# EAGLE library part HEADER-2X10 (library microbuilder)
PIN HEADER
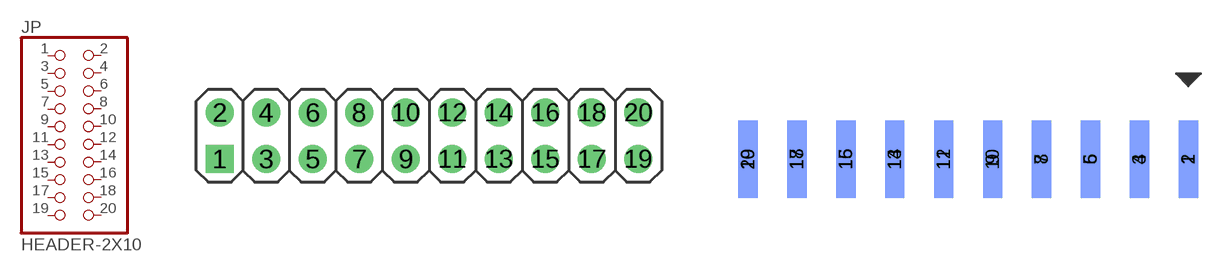
[diagram p11: symbol with the pads of 2X10; footprints 2X10, MOLEX20_RIGHTANGLE]

Designator prefix JP

## HEADER-2X10  [2X10]
1  1  pas
2  2  pas
3  3  pas
4  4  pas
5  5  pas
6  6  pas
7  7  pas
8  8  pas
9  9  pas
10  10  pas
11  11  pas
12  12  pas
13  13  pas
14  14  pas
15  15  pas
16  16  pas
17  17  pas
18  18  pas
19  19  pas
20  20  pas

## HEADER-2X10MOLEX20_SIDE  [MOLEX20_RIGHTANGLE]
Pads as for 2X10

## Footprint 2X10 (pad centres in mm)
PIN HEADER
drill 1 square: 1 -11.43,-1.27
drill 1 round: 2 -11.43,1.27; 3 -8.89,-1.27; 4 -8.89,1.27; 5 -6.35,-1.27; 6 -6.35,1.27; 7 -3.81,-1.27; 8 -3.81,1.27; 9 -1.27,-1.27; 10 -1.27,1.27; 11 1.27,-1.27; 12 1.27,1.27; 13 3.81,-1.27; 14 3.81,1.27; 15 6.35,-1.27; 16 6.35,1.27; 17 8.89,-1.27; 18 8.89,1.27; 19 11.43,-1.27; 20 11.43,1.27

## Footprint MOLEX20_RIGHTANGLE (pad centres in mm)
Molex 20 Pin Header Footprint designed to mount connector on edge of board, one row on top layer, one row on bottom layer
smd 1 x 4: 1 11.43,0; 3 8.89,0; 5 6.35,0; 7 3.81,0; 9 1.27,0; 11 -1.27,0; 13 -3.81,0; 15 -6.35,0; 17 -8.89,0; 19 -11.43,0
smd 1 x 4 bottom: 2 11.43,0; 4 8.89,0; 6 6.35,0; 8 3.81,0; 10 1.27,0; 12 -1.27,0; 14 -3.81,0; 16 -6.35,0; 18 -8.89,0; 20 -11.43,0